# EAGLE library part STICK (library stick)
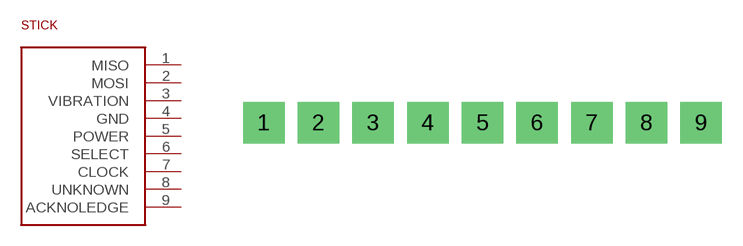
[diagram p0: symbol with the pads of STICK; footprint STICK]

Designator prefix -

## STICK  [STICK]
1  MISO
2  MOSI
3  VIBRATION
4  GND
5  POWER
6  SELECT
7  CLOCK
8  UNKNOWN
9  ACKNOLEDGE

## Footprint STICK (pad centres in mm)
drill 1 pad 3.048 square: 1 0,0; 2 4,0; 3 8,0; 4 12,0; 5 16,0; 6 20,0; 7 24,0; 8 28,0; 9 32,0